# EAGLE library part PAPILIO_16BIT_SEGMENT (library GadgetFactory_v1)
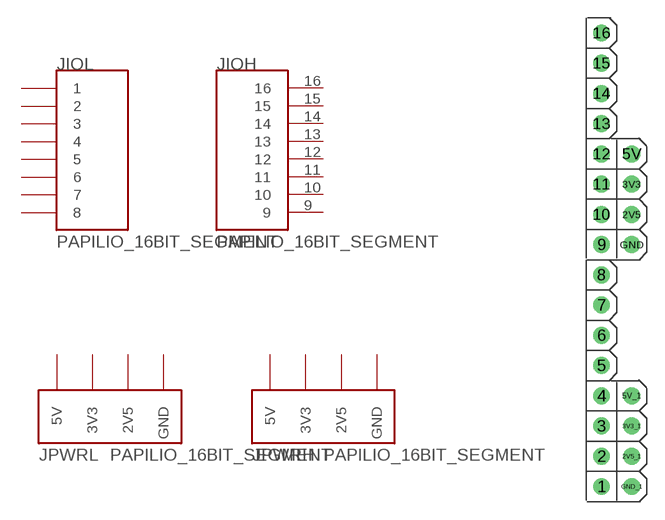
[diagram p11: symbol with the pads of COCOON_16BIT_SEGMENT; footprint COCOON_16BIT_SEGMENT]

Designator prefix J; gates IOL=COCOON_8BIT_SEGMENT IOH=COCOON_16BIT_SEGMENT PWRL=COCOON_SEGMENT_POWER PWRH=COCOON_SEGMENT_POWER

## PAPILIO_16BIT_SEGMENT  [COCOON_16BIT_SEGMENT]
1  IOL:1
2  IOL:2
2V5  PWRH:2V5  pwr
2V5_1  PWRL:2V5  pwr
3  IOL:3
3V3  PWRH:3V3  pwr
3V3_1  PWRL:3V3  pwr
4  IOL:4
5  IOL:5
5V  PWRH:5V  pwr
5V_1  PWRL:5V  pwr
6  IOL:6
7  IOL:7
8  IOL:8
9  IOH:9
10  IOH:10
11  IOH:11
12  IOH:12
13  IOH:13
14  IOH:14
15  IOH:15
16  IOH:16
GND  PWRH:GND  pwr
GND_1  PWRL:GND  pwr

## Footprint COCOON_16BIT_SEGMENT (pad centres in mm)
drill 0.8 pad 1.422: 1 1.27,-19.05; 2 1.27,-16.51; 2V5 3.81,3.81; 2V5_1 3.81,-16.51; 3 1.27,-13.97; 3V3 3.81,6.35; 3V3_1 3.81,-13.97; 4 1.27,-11.43; 5 1.27,-8.89; 5V 3.81,8.89; 5V_1 3.81,-11.43; 6 1.27,-6.35; 7 1.27,-3.81; 8 1.27,-1.27; 9 1.27,1.27; 10 1.27,3.81; 11 1.27,6.35; 12 1.27,8.89; 13 1.27,11.43; 14 1.27,13.97; 15 1.27,16.51; 16 1.27,19.05; GND 3.81,1.27; GND_1 3.81,-19.05